# EAGLE library part AD9851BRSZRL (library JerParts)
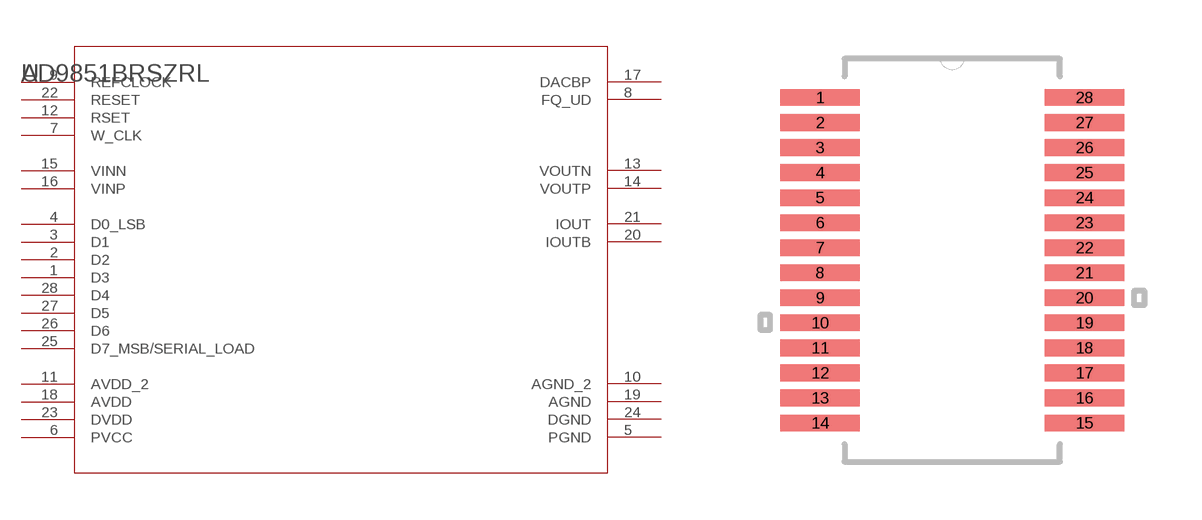
[diagram p3: symbol with the pads of RS_28; footprint RS_28]

Designator prefix U

## AD9851BRSZRL (MANUFACTURER_PART_NUMBER: AD9851BRSZRL; VENDOR: Vendor)  [RS_28]
1  D3  pas
2  D2  pas
3  D1  pas
4  D0_LSB  pas
5  PGND  pas
6  PVCC  pwr
7  W_CLK  pas
8  FQ_UD  pas
9  REFCLOCK  pas
10  AGND_2  pas
11  AVDD_2  pwr
12  RSET  pas
13  VOUTN  pas
14  VOUTP  pas
15  VINN  pas
16  VINP  pas
17  DACBP  pas
18  AVDD  pwr
19  AGND  pas
20  IOUTB  pas
21  IOUT  pas
22  RESET  pas
23  DVDD  pwr
24  DGND  pas
25  D7_MSB/SERIAL_LOAD  pas
26  D6  pas
27  D5  pas
28  D4  pas

## Footprint RS_28 (pad centres in mm)
smd 2.057 x 0.432: 1 -3.429,4.225; 2 -3.429,3.575; 3 -3.429,2.925; 4 -3.429,2.275; 5 -3.429,1.625; 6 -3.429,0.975; 7 -3.429,0.325; 8 -3.429,-0.325; 9 -3.429,-0.975; 10 -3.429,-1.625; 11 -3.429,-2.275; 12 -3.429,-2.925; 13 -3.429,-3.575; 14 -3.429,-4.225; 15 3.429,-4.225; 16 3.429,-3.575; 17 3.429,-2.925; 18 3.429,-2.275; 19 3.429,-1.625; 20 3.429,-0.975; 21 3.429,-0.325; 22 3.429,0.325; 23 3.429,0.975; 24 3.429,1.625; 25 3.429,2.275; 26 3.429,2.925; 27 3.429,3.575; 28 3.429,4.225